# Altium footprint library SR PCB Library V01.PcbLib: 402 footprints (part 26 of 26)
Each footprint in its own frame and in the unit in brackets; x right, y up, seen from the top. Pads: shape width x height; smd on the part's side, far side on the other; paste and mask are expansions set on the pad; w line width, h text height; cw(c..) or ccw(c..) is an arc to the next point about the centre after c.
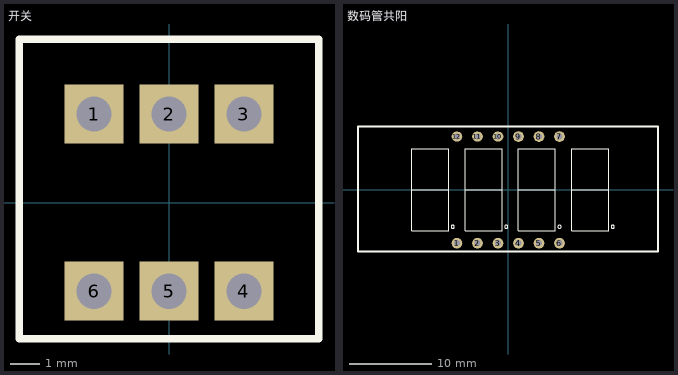
[diagram p25: the footprints below, top view; thin cyan lines are the x and y axes]

## 开关 [mm]
pads (6):
  rect 2x2 hole 1.2: 1(-2.54,3) 2(0,3) 3(2.54,3) 4(2.54,-3) 5(0,-3) 6(-2.54,-3)
Top Overlay:
  lines w0.254: -5.08,-4.62 5.08,-4.62 5.08,5.54 -5.08,5.54 -5.08,-4.62

## 数码管共阳 [mm]
pads (12):
  round 1.3 hole 0.75: 1(-6.25,-6.5) 2(-3.75,-6.5) 3(-1.25,-6.5) 4(1.25,-6.5) 5(3.75,-6.5) 6(6.25,-6.5) 7(6.25,6.5) 8(3.75,6.5) 9(1.25,6.5)
  oval 1.3x1.2 hole 0.75: 10(-1.25,6.5) 11(-3.75,6.5) 12(-6.25,6.5)
Top Overlay:
  circle w0.1: c-6.75,-4.5 r0.2
  circle w0.1: c-0.25,-4.5 r0.2
  circle w0.1: c6.25,-4.5 r0.2
  circle w0.1: c12.75,-4.5 r0.2
  lines w0.15: -11.75,0 -7.25,0 ; -5.25,0 -0.75,0 ; 1.25,0 5.75,0 ; 7.75,0 12.25,0 ; -11.75,-5 -7.25,-5 -7.25,5 -11.75,5 -11.75,-5 ; -5.25,-5 -5.25,5 -0.75,5 -0.75,-5 -5.25,-5 ; 1.25,-5 1.25,5 5.75,5 5.75,-5 1.25,-5 ; 7.75,-5 7.75,5 12.25,5 12.25,-5 7.75,-5
  lines w0.3: -18.315,-7.516 -18.315,7.724 ; -18.254,-7.516 18.246,-7.516 ; -18.254,7.724 18.246,7.724 ; 18.261,-7.516 18.261,7.724